# Altium schematic symbol library Crystals.SchLib: 3 symbols
Pins are listed as number, name and electrical type; pins without a type are passive.

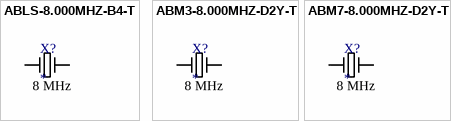
[diagram p0: symbols ABLS-8.000MHZ-B4-T to ABM7-8.000MHZ-D2Y-T]

## ABLS-8.000MHZ-B4-T
designator X?  Frequency: 8 MHz
CRYSTAL 8.0000MHZ 18PF SMD; Supplier 1: Digi-Key; Supplier 2: Farnell; Supplier 3: Mouser; Supplier 4: Arrow Electronics; Supplier Part Number 1: 535-10212-1-ND; Supplier Part Number 2: 2467757; Supplier Part Number 3: 815-ABLS-8.0M-T; Supplier Part Number 4: ABLS-8.000MHZ-B4-T
footprint ABRACON_HC-49/US
pins: 1, 2

## ABM3-8.000MHZ-D2Y-T
designator X?  Frequency: 8 MHz
CRYSTAL 8.0000MHZ 18PF SMD; Supplier 1: Digi-Key; Supplier 2: Farnell; Supplier 3: Mouser; Supplier Part Number 1: 535-10630-1-ND; Supplier Part Number 2: 2101329; Supplier Part Number 3: 815-ABM3-8-D2Y-T
footprint ABRACON_ABM3
pins: 1, 2

## ABM7-8.000MHZ-D2Y-T
designator X?  Frequency: 8 MHz
CRYSTAL 8.0000MHZ 18PF SMD; Supplier 1: Digi-Key; Supplier 2: Farnell; Supplier 3: Mouser; Supplier 4: Arrow Electronics; Supplier Part Number 1: 535-9831-6-ND; Supplier Part Number 2: 2101337; Supplier Part Number 3: 815-ABM7-8-D2Y-T; Supplier Part Number 4: ABM7-8.000MHZ-D2Y-T
footprint ABRACON_ABM7
pins: 1, 2